# Altium footprint library TO-packages.PcbLib: 9 footprints
Each footprint in its own frame and in the unit in brackets; x right, y up, seen from the top. Pads: shape width x height; smd on the part's side, far side on the other; paste and mask are expansions set on the pad; w line width, h text height; cw(c..) or ccw(c..) is an arc to the next point about the centre after c.
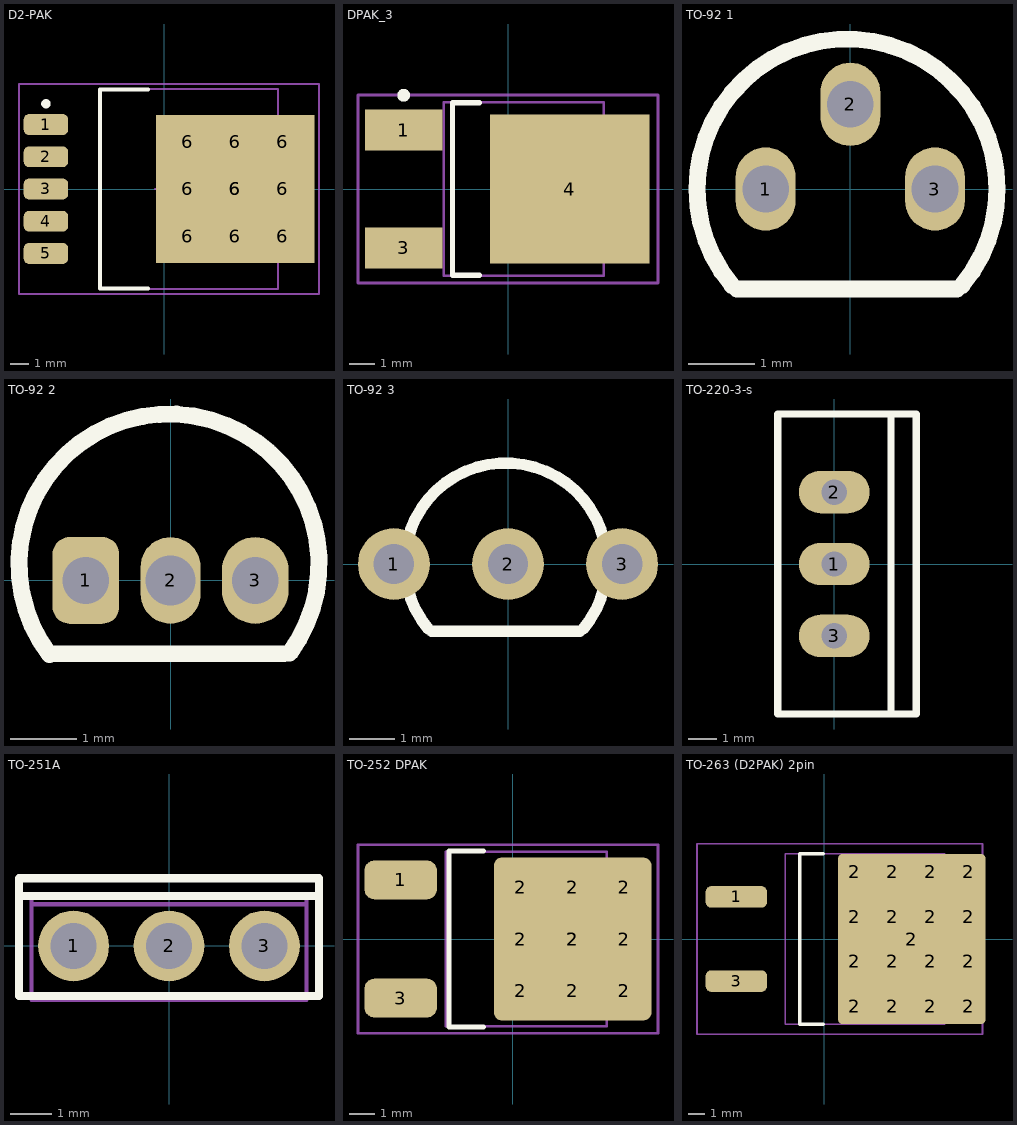
[diagram p0: the footprints below, top view; thin cyan lines are the x and y axes]

## D2-PAK [mm] "D2-PAK, 6-Pads, Body 9.4x10.5mm (max), IPC Medium Density"
height 4.75
pads (15):
  rrect50% 2.35x1.1 smd: 1(-6.25,3.404) 2(-6.25,1.702) 3(-6.25,0) 4(-6.25,-1.702) 5(-6.25,-3.404)
  rrect50% 1.8x2 smd: 6(1.25,-2.5) 6(1.25,0) 6(1.25,2.5) 6(3.75,-2.5) 6(3.75,0) 6(3.75,2.5) 6(6.25,-2.5) 6(6.25,0) 6(6.25,2.5)
  rect 8.4x7.8 smd paste-5: 6(3.75,0)
Top Overlay:
  circle w0.25: c-6.25,4.504 r0.125
  lines w0.2: -0.85,-5.25 -3.4,-5.25 -3.4,5.25 -0.85,5.25
Mechanical 13:
  lines w0.1: -3.4,-5.275 6,-5.275 6,5.275 -3.4,5.275 -3.4,-5.275
Mechanical 15:
  lines w0.1: -0.5,0 0.5,0 ; 0,-0.5 0,0.5 ; -7.675,-5.55 8.175,-5.55 8.175,5.55 -7.675,5.55 -7.675,-5.55
3D body: height 4.56, standoff 0, extent -6.877,-5.08 7.137,5.08

## DPAK_3 [mm] "D-PAK, 3-Pads, Body 6,2x6,7mm (max), IPC Medium Density"
height 2.38
pads (3):
  rect 3x1.6 smd: 1(-4.05,2.29) 3(-4.05,-2.29)
  rect 6.2x5.8 smd: 4(2.4,0)
Top Overlay:
  circle w0.25: c-4.05,3.64 r0.125
  lines w0.2: -1.1,-3.35 -2.15,-3.35 -2.15,3.35 -1.1,3.35
Mechanical 13:
  lines w0.1: -2.5,-3.375 -2.5,3.375 3.72,3.375 3.72,-3.375 -2.5,-3.375
Mechanical 15:
  lines w0.1: -0.5,0 0.5,0 ; 0,-0.5 0,0.5 ; -5.825,-3.65 -5.825,3.65 5.825,3.65 5.825,-3.65 -5.825,-3.65
3D body: height 2.3, standoff -0.01, extent -4.62,-3.278 5.08,3.302

## TO-92 1 [mm] "TO-92"
height 10
pads (3):
  oval 0.9x1.25 hole 0.7: 1(-1.27,0) 2(0,1.27) 3(1.27,0)
Top Overlay:
  lines w0.254: -1.774,-1.446 cw(c-0.05,0) 1.674,-1.446 ; -1.7,-1.5 1.6,-1.5

## TO-92 2 [mm] "TO-92"
height 10
pads (3):
  rrect50% 1x1.3 hole 0.7: 1(-1.27,0)
  oval 0.9x1.3 hole 0.75: 2(0,0)
  oval 1x1.3 hole 0.7: 3(1.27,0)
Top Overlay:
  lines w0.254: -1.817,-1.113 cw(c-0.024,0.246) 1.787,-1.09 ; -1.8,-1.1 1.7,-1.1
3D body: height 1, standoff -10.42, extent -2.38,-1.12 2.38,2.5

## TO-92 3 [mm] "TO-92 3"
height 10
pads (3):
  round 1.6 hole 0.9: 1(-2.54,0) 2(0,0) 3(2.54,0)
Top Overlay:
  lines w0.254: -1.774,-1.446 cw(c-0.05,0) 1.674,-1.446 ; -1.7,-1.5 1.6,-1.5
3D body: height 10, standoff -3, extent -2.79,-1.59 2.79,2.613

## TO-220-3-s [mm] "TO-220"
height 19.3
pads (3):
  oval 2.5x1.5 hole 0.9: 1(0,0) 2(0,2.54) 3(0,-2.54)
Top Overlay:
  lines w0.254: 2,-5.3 2,5.3 ; -2,-5.3 2.9,-5.3 2.9,5.3 -2,5.3 -2,-5.3
3D body: height 19, standoff -9.4, extent -1.8,-5.2 2.7,5.2

## TO-251A [mm]
height 10
pads (3):
  round 1.7 hole 1.1: 1(-2.29,0) 2(0,0) 3(2.29,0)
Top Overlay:
  lines w0.2: 3.6,1.175 3.6,1.625 -3.6,1.625 -3.6,1.2 ; -3.6,1.2 -3.6,-1.2 3.6,-1.2 3.6,1.2 -3.6,1.2
Mechanical 13:
  lines w0.1: -3.3,1 -3.3,1.225 3.3,1.225 3.3,1 ; -3.3,1 3.3,1 ; -3.3,1 -3.3,-1.29 3.3,-1.29 3.3,1 ; 3.3,1 3.3,1
3D body: height 8.15, standoff -2, extent -3.3,-1.29 3.3,1

## TO-252 DPAK [mm] "TO-252 DPAK"
height 2.39
pads (12):
  rrect50% 2.8x1.5 smd: 1(-4.325,2.286) 3(-4.325,-2.286)
  rrect50% 1.7x1.7 smd: 2(0.325,-2) 2(0.325,0) 2(0.325,2) 2(2.325,-2) 2(2.325,0) 2(2.325,2) 2(4.325,-2) 2(4.325,0) 2(4.325,2)
  rrect10% 6.1x6.3 smd paste-6: 2(2.325,0)
Top Overlay:
  lines w0.2: -1.125,-3.4 -2.45,-3.4 -2.45,3.4 -1.125,3.4
Mechanical 13:
  lines w0.1: -2.575,-3.375 3.645,-3.375 3.645,3.375 -2.575,3.375 -2.575,-3.375
Mechanical 15:
  lines w0.1: -0.675,0 0.325,0 ; -0.175,-0.5 -0.175,0.5 ; -5.975,-3.65 5.625,-3.65 5.625,3.65 -5.975,3.65 -5.975,-3.65
3D body: height 2.3, standoff -0.01, extent -4.725,-3.29 4.975,3.29

## TO-263 (D2PAK) 2pin [mm] "D2PAK"
height 4.83
pads (19):
  rrect50% 3.7x1.3 smd: 1(-5.3,2.54) 3(-5.3,-2.54)
  rrect50% 1.8x2 smd: 2(1.85,-4.05) 2(1.85,-1.35) 2(1.85,1.35) 2(1.85,4.05) 2(4.15,-4.05) 2(4.15,-1.35) 2(4.15,1.35) 2(4.15,4.05) 2(6.45,-4.05) 2(6.45,-1.35) 2(6.45,1.35) 2(6.45,4.05) 2(8.75,-4.05) 2(8.75,-1.35) 2(8.75,1.35) 2(8.75,4.05)
  rrect6% 8.9x10.3 smd paste-10: 2(5.3,0)
Top Overlay:
  lines w0.2: -0.04,-5.15 -1.475,-5.15 -1.475,5.15 -0.04,5.15
Mechanical 13:
  lines w0.1: -2.35,-5.15 -2.35,5.15 7.3,5.15 7.3,-5.15 -2.35,-5.15
Mechanical 15:
  lines w0.1: -7.675,-5.75 -7.675,5.75 9.575,5.75 9.575,-5.75 -7.675,-5.75
3D body: height 4.88, standoff -0.13, extent -6.391,-5.08 8.873,5.08